# Altium schematic symbol library Components - 01.02.21 - 21.11.SchLib: 1 symbol
Pins are listed as number, name and electrical type; pins without a type are passive.

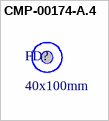
[diagram p0: symbol CMP-00174-A.4]

## CMP-00174-A.4
designator FD?, comment 40x100mm
Fiducial 40x100mm
footprint Fiducial_FT